# Altium footprint library Footprint-Lib-JVillodres.PcbLib: 52 footprints (part 2 of 4)
Each footprint in its own frame and in the unit in brackets; x right, y up, seen from the top. Pads: shape width x height; smd on the part's side, far side on the other; paste and mask are expansions set on the pad; w line width, h text height; cw(c..) or ccw(c..) is an arc to the next point about the centre after c.
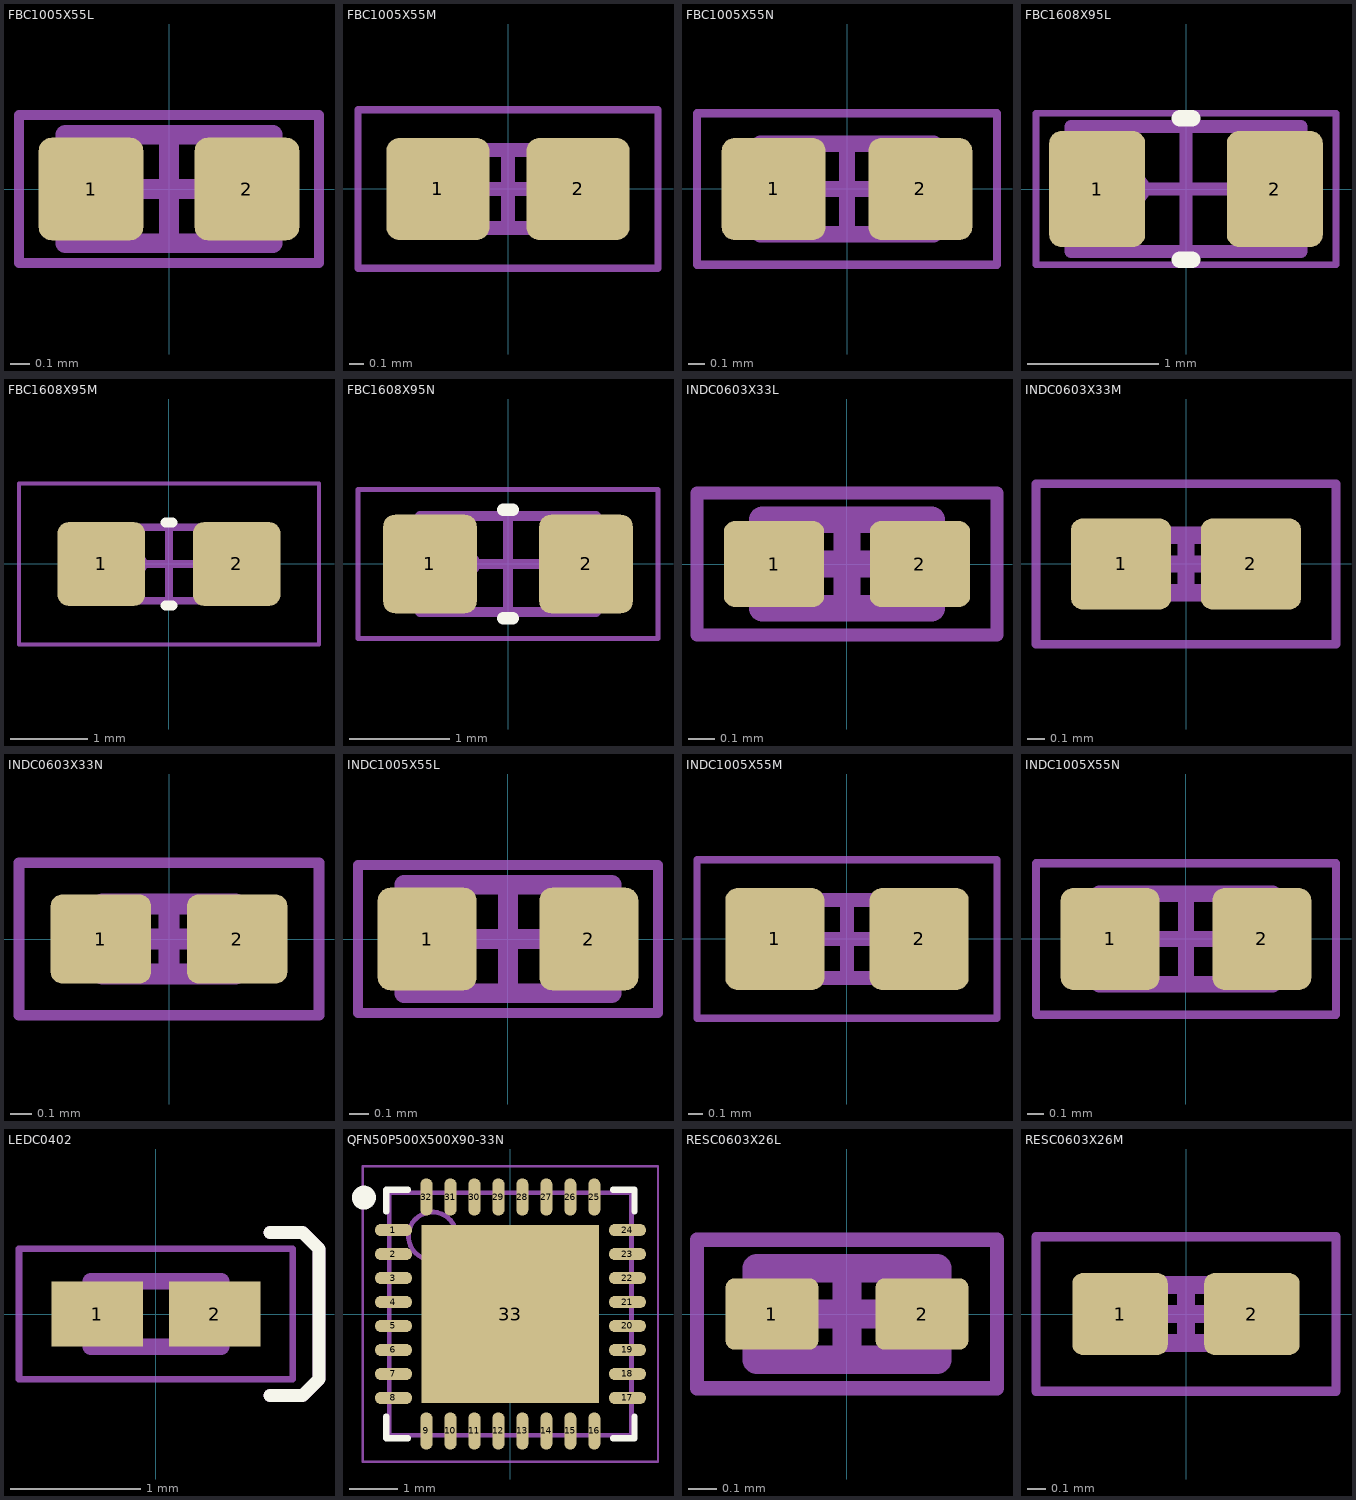
[diagram p1: the footprints below, top view; thin cyan lines are the x and y axes]

## FBC1005X55L [mm] "Chip Ferrite Bead, 2-Leads, Body 1,00x0,50mm, IPC High Density"
height 0.55
pads (2):
  rrect25% 0.53x0.52 smd: 1(-0.395,0) 2(0.395,0)
Top Assembly:
  lines w0.1: -0.525,-0.275 0.525,-0.275 0.525,0.275 -0.525,0.275 -0.525,-0.275
Top Designator:
  text ".Designator" at 0,0.188 h1
Top Courtyard:
  lines w0.05: -0.76,-0.375 0.76,-0.375 0.76,0.375 -0.76,0.375 -0.76,-0.375
Top Component Center:
  lines w0.1: -0.275,0 0.275,0 ; 0,-0.275 0,0.275
3D body "FBC1005X55L.step": height 0.55, standoff 0, extent -0.5,-0.25 0.5,0.25

## FBC1005X55M [mm] "Chip Ferrite Bead, 2-Leads, Body 1,00x0,50mm, IPC Low Density"
height 0.55
pads (2):
  rrect25% 0.73x0.72 smd: 1(-0.495,0) 2(0.495,0)
Top Assembly:
  lines w0.1: -0.525,-0.275 0.525,-0.275 0.525,0.275 -0.525,0.275 -0.525,-0.275
Top Designator:
  text ".Designator" at 0,0.188 h1
Top Courtyard:
  lines w0.05: -1.06,-0.56 1.06,-0.56 1.06,0.56 -1.06,0.56 -1.06,-0.56
Top Component Center:
  lines w0.1: -0.275,0 0.275,0 ; 0,-0.275 0,0.275
3D body "FBC1005X55M.step": height 0.55, standoff 0, extent -0.5,-0.25 0.5,0.25

## FBC1005X55N [mm] "Chip Ferrite Bead, 2-Leads, Body 1,00x0,50mm, IPC Medium Density"
height 0.55
pads (2):
  rrect25% 0.63x0.62 smd: 1(-0.445,0) 2(0.445,0)
Top Assembly:
  lines w0.1: -0.525,-0.275 0.525,-0.275 0.525,0.275 -0.525,0.275 -0.525,-0.275
Top Designator:
  text ".Designator" at 0,0.188 h1
Top Courtyard:
  lines w0.05: -0.91,-0.46 0.91,-0.46 0.91,0.46 -0.91,0.46 -0.91,-0.46
Top Component Center:
  lines w0.1: -0.275,0 0.275,0 ; 0,-0.275 0,0.275
3D body "FBC1005X55N.step": height 0.55, standoff 0, extent -0.5,-0.25 0.5,0.25

## FBC1608X95L [mm] "Chip Ferrite Bead, 2-Leads, Body 1,60x0,80mm, IPC High Density"
height 0.95
pads (2):
  rrect25% 0.73x0.88 smd: 1(-0.675,0) 2(0.675,0)
Top Overlay:
  lines w0.127: -0.046,-0.539 0.046,-0.539 ; -0.046,0.539 0.046,0.539
Top Assembly:
  circle w0.125: c-0.4,0 r0.062
  lines w0.1: -0.875,-0.475 0.875,-0.475 0.875,0.475 -0.875,0.475 -0.875,-0.475
Top Designator:
  text ".Designator" at 0,0.188 h1
Top Courtyard:
  lines w0.05: -1.14,-0.575 1.14,-0.575 1.14,0.575 -1.14,0.575 -1.14,-0.575
Top Component Center:
  lines w0.1: -0.475,0 0.475,0 ; 0,-0.475 0,0.475
3D body "FBC1608X95L.step": height 0.95, standoff 0, extent -0.8,-0.4 0.8,0.4

## FBC1608X95M [mm] "Chip Ferrite Bead, 2-Leads, Body 1,60x0,80mm, IPC Low Density"
height 0.95
pads (2):
  rrect25% 1.13x1.08 smd: 1(-0.875,0) 2(0.875,0)
Top Overlay:
  lines w0.127: -0.046,-0.539 0.046,-0.539 ; -0.046,0.538 0.046,0.538
Top Assembly:
  circle w0.125: c-0.4,0 r0.062
  lines w0.1: -0.875,-0.475 0.875,-0.475 0.875,0.475 -0.875,0.475 -0.875,-0.475
Top Designator:
  text ".Designator" at 0,0.188 h1
Top Courtyard:
  lines w0.05: -1.94,-1.04 1.94,-1.04 1.94,1.04 -1.94,1.04 -1.94,-1.04
Top Component Center:
  lines w0.1: -0.475,0 0.475,0 ; 0,-0.475 0,0.475
3D body "FBC1608X95M.step": height 0.95, standoff 0, extent -0.8,-0.4 0.8,0.4

## FBC1608X95N [mm] "Chip Ferrite Bead, 2-Leads, Body 1,60x0,80mm, IPC Medium Density"
height 0.95
pads (2):
  rrect25% 0.93x0.98 smd: 1(-0.775,0) 2(0.775,0)
Top Overlay:
  lines w0.127: -0.046,-0.539 0.046,-0.539 ; -0.046,0.538 0.046,0.538
Top Assembly:
  circle w0.125: c-0.4,0 r0.062
  lines w0.1: -0.875,-0.475 0.875,-0.475 0.875,0.475 -0.875,0.475 -0.875,-0.475
Top Designator:
  text ".Designator" at 0,0.188 h1
Top Courtyard:
  lines w0.05: -1.49,-0.74 1.49,-0.74 1.49,0.74 -1.49,0.74 -1.49,-0.74
Top Component Center:
  lines w0.1: -0.475,0 0.475,0 ; 0,-0.475 0,0.475
3D body "FBC1608X95N.step": height 0.95, standoff 0, extent -0.8,-0.4 0.8,0.4

## INDC0603X33L [mm] "Chip Inductor, 2-Leads, Body 0,60x0,30mm, IPC High Density"
height 0.33
pads (2):
  rrect25% 0.375x0.32 smd: 1(-0.272,0) 2(0.273,0)
Top Assembly:
  lines w0.1: -0.315,-0.165 0.315,-0.165 0.315,0.165 -0.315,0.165 -0.315,-0.165
Top Courtyard:
  lines w0.05: -0.56,-0.265 0.56,-0.265 0.56,0.265 -0.56,0.265 -0.56,-0.265
  lines w0.1: -0.165,0 0.165,0 ; 0,-0.165 0,0.165
3D body "INDC0603X33L.step": height 0.33, standoff 0, extent -0.315,-0.165 0.315,0.165

## INDC0603X33M [mm] "Chip Inductor, 2-Leads, Body 0,60x0,30mm, IPC Low Density"
height 0.33
pads (2):
  rrect25% 0.575x0.52 smd: 1(-0.373,0) 2(0.372,0)
Top Assembly:
  lines w0.1: -0.315,-0.165 0.315,-0.165 0.315,0.165 -0.315,0.165 -0.315,-0.165
Top Courtyard:
  lines w0.05: -0.86,-0.46 0.86,-0.46 0.86,0.46 -0.86,0.46 -0.86,-0.46
  lines w0.1: -0.165,0 0.165,0 ; 0,-0.165 0,0.165
3D body "INDC0603X33M.step": height 0.33, standoff 0, extent -0.315,-0.165 0.315,0.165

## INDC0603X33N [mm] "Chip Inductor, 2-Leads, Body 0,60x0,30mm, IPC Medium Density"
height 0.33
pads (2):
  rrect25% 0.475x0.42 smd: 1(-0.323,0) 2(0.322,0)
Top Assembly:
  lines w0.1: -0.315,-0.165 0.315,-0.165 0.315,0.165 -0.315,0.165 -0.315,-0.165
Top Courtyard:
  lines w0.05: -0.71,-0.36 0.71,-0.36 0.71,0.36 -0.71,0.36 -0.71,-0.36
  lines w0.1: -0.165,0 0.165,0 ; 0,-0.165 0,0.165
3D body "INDC0603X33N.step": height 0.33, standoff 0, extent -0.315,-0.165 0.315,0.165

## INDC1005X55L [mm] "Chip Inductor, 2-Leads, Body 1,00x0,50mm, IPC High Density"
height 0.55
pads (2):
  rrect25% 0.5x0.52 smd: 1(-0.41,0) 2(0.41,0)
Top Assembly:
  lines w0.1: -0.525,-0.275 0.525,-0.275 0.525,0.275 -0.525,0.275 -0.525,-0.275
Top Courtyard:
  lines w0.05: -0.76,-0.375 0.76,-0.375 0.76,0.375 -0.76,0.375 -0.76,-0.375
  lines w0.1: -0.275,0 0.275,0 ; 0,-0.275 0,0.275
3D body "INDC1005X55L.step": height 0.55, standoff 0, extent -0.525,-0.275 0.525,0.275

## INDC1005X55M [mm] "Chip Inductor, 2-Leads, Body 1,00x0,50mm, IPC Low Density"
height 0.55
pads (2):
  rrect25% 0.7x0.72 smd: 1(-0.51,0) 2(0.51,0)
Top Assembly:
  lines w0.1: -0.525,-0.275 0.525,-0.275 0.525,0.275 -0.525,0.275 -0.525,-0.275
Top Courtyard:
  lines w0.05: -1.06,-0.56 1.06,-0.56 1.06,0.56 -1.06,0.56 -1.06,-0.56
  lines w0.1: -0.275,0 0.275,0 ; 0,-0.275 0,0.275
3D body "INDC1005X55M.step": height 0.55, standoff 0, extent -0.525,-0.275 0.525,0.275

## INDC1005X55N [mm] "Chip Inductor, 2-Leads, Body 1,00x0,50mm, IPC Medium Density"
height 0.55
pads (2):
  rrect25% 0.6x0.62 smd: 1(-0.46,0) 2(0.46,0)
Top Assembly:
  lines w0.1: -0.525,-0.275 0.525,-0.275 0.525,0.275 -0.525,0.275 -0.525,-0.275
Top Courtyard:
  lines w0.05: -0.91,-0.46 0.91,-0.46 0.91,0.46 -0.91,0.46 -0.91,-0.46
  lines w0.1: -0.275,0 0.275,0 ; 0,-0.275 0,0.275
3D body "INDC1005X55N.step": height 0.55, standoff 0, extent -0.525,-0.275 0.525,0.275

## LEDC0402 [mm]
pads (2):
  rect 0.7x0.5 smd mask+0.05: 1(-0.45,0) 2(0.45,0)
Top Overlay:
  lines w0.1: 0.875,-0.625 1.125,-0.625 1.25,-0.5 1.25,0 1.25,0.5 1.125,0.625 0.875,0.625
Top 3D Body:
  lines w0.1: 0.875,-0.625 1.125,-0.625 1.25,-0.5 1.25,0 1.25,0.5 1.125,0.625 0.875,0.625
  lines w0.127: -0.5,-0.25 0.5,-0.25 0.5,0.25 -0.5,0.25 -0.5,-0.25
Top Courtyard:
  lines w0.05: -1.05,-0.5 -1.05,0.5 1.05,0.5 1.05,-0.5 -1.05,-0.5
3D body "step_temp.STEP": height 0.5, standoff 0, extent -0.5,-0.25 0.5,0.25

## QFN50P500X500X90-33N [mm] "QFN, 32-Leads, Body 5,00x5,00mm, Pitch 0,50mm, Thermal Pad 3,70x3,70mm, IPC Medium Density"
height 0.9
pads (33):
  oval 0.775x0.25 smd: 1(-2.438,1.75) 2(-2.438,1.25) 3(-2.438,0.75) 4(-2.438,0.25) 5(-2.438,-0.25) 6(-2.438,-0.75) 7(-2.438,-1.25) 8(-2.438,-1.75) 17(2.437,-1.75) 18(2.437,-1.25) 19(2.437,-0.75) 20(2.437,-0.25) 21(2.437,0.25) 22(2.437,0.75) 23(2.437,1.25) 24(2.437,1.75)
  oval 0.25x0.775 smd: 9(-1.75,-2.437) 10(-1.25,-2.437) 11(-0.75,-2.437) 12(-0.25,-2.437) 13(0.25,-2.437) 14(0.75,-2.437) 15(1.25,-2.437) 16(1.75,-2.437) 25(1.75,2.438) 26(1.25,2.438) 27(0.75,2.438) 28(0.25,2.438) 29(-0.25,2.438) 30(-0.75,2.438) 31(-1.25,2.438) 32(-1.75,2.438)
  rect 3.7x3.7 smd paste-1.85: 33(0,0)
Top Overlay:
  circle w0.25: c-3.052,2.425 r0.125
  lines w0.127: -2.589,-2.138 -2.589,-2.588 -2.138,-2.588 ; -2.589,2.138 -2.589,2.589 -2.138,2.589 ; 2.138,-2.588 2.588,-2.588 2.588,-2.138 ; 2.138,2.589 2.588,2.589 2.588,2.138
Top Paste:
  rectangle: -1.397,0.227 -0.227,1.397
  rectangle: -1.397,-1.397 -0.227,-0.227
  rectangle: 0.227,0.227 1.397,1.397
  rectangle: 0.227,-1.397 1.397,-0.227
Top Assembly:
  circle w0.1: c-1.625,1.625 r0.5
  lines w0.1: -2.525,-2.525 -2.525,2.525 2.525,2.525 2.525,-2.525 -2.525,-2.525
Top Designator:
  text ".Designator" at 0,0.188 h1
Top Courtyard:
  lines w0.05: -3.075,-3.075 -3.075,3.075 3.075,3.075 3.075,-3.075 -3.075,-3.075
Top Component Center:
  lines w0.1: -0.5,0 0.5,0 ; 0,-0.5 0,0.5
3D body "QFN50P500X500X90-33N.step": height 0.9, standoff 0, extent -2.55,-2.55 2.55,2.55

## RESC0603X26L [mm] "Chip Resistor, 2-Leads, Body 0,60x0,30mm, IPC High Density"
height 0.26
pads (2):
  rrect25% 0.325x0.25 smd: 1(-0.262,0) 2(0.263,0)
Top Assembly:
  lines w0.1: -0.315,-0.16 -0.315,0.16 0.315,0.16 0.315,-0.16 -0.315,-0.16
Top Designator:
  text ".Designator" at 0,0.188 h1
Top Courtyard:
  lines w0.05: -0.525,-0.26 -0.525,0.26 0.525,0.26 0.525,-0.26 -0.525,-0.26
Top Component Center:
  lines w0.1: -0.16,0 0.16,0 ; 0,-0.16 0,0.16
3D body "RESC0603X26L.step": height 0.26, standoff 0, extent -0.3,-0.15 0.3,0.15

## RESC0603X26M [mm] "Chip Resistor, 2-Leads, Body 0,60x0,30mm, IPC Low Density"
height 0.26
pads (2):
  rrect25% 0.525x0.45 smd: 1(-0.363,0) 2(0.362,0)
Top Assembly:
  lines w0.1: -0.315,-0.16 0.315,-0.16 0.315,0.16 -0.315,0.16 -0.315,-0.16
Top Designator:
  text ".Designator" at 0,0.188 h1
Top Courtyard:
  lines w0.05: -0.825,-0.425 0.825,-0.425 0.825,0.425 -0.825,0.425 -0.825,-0.425
Top Component Center:
  lines w0.1: -0.16,0 0.16,0 ; 0,-0.16 0,0.16
3D body "RESC0603X26M.step": height 0.26, standoff 0, extent -0.3,-0.15 0.3,0.15